# EAGLE library part UJ2-MIBH2-4-SMT_UJ2-MIBH2-4-SMT (library demon)
Micro B, USB 2.0, 1.8 A, Right Angle, Surface Mount (SMT), USB Receptacle Check availability <https://pricing.snapeda.com/parts/UJ2-MIBH2-4-SMT/CUI%20Devices/view-part?ref=eda>
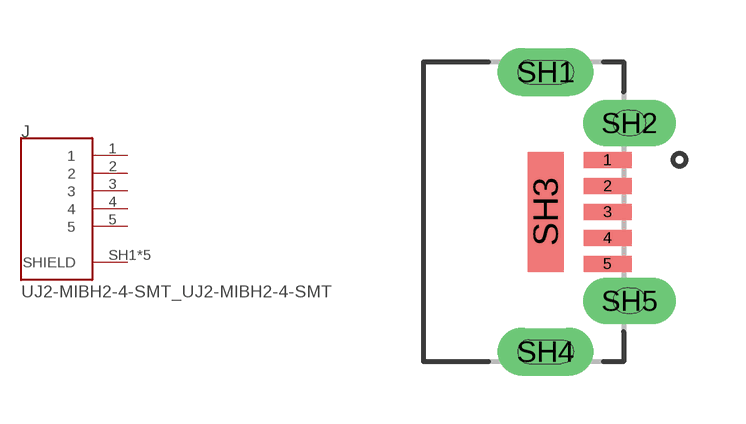
[diagram p5: symbol with the pads of UJ2-MIBH2-4-SMT_CUI_UJ2-MIBH2-4-SMT; footprint UJ2-MIBH2-4-SMT_CUI_UJ2-MIBH2-4-SMT]

Designator prefix J

## UJ2-MIBH2-4-SMT_UJ2-MIBH2-4-SMT (AVAILABILITY: In Stock; CUI_PURCHASE_URL: https://www.cuidevices.com/product/interconnect/connectors/usb-connectors/uj2-mibh2-4-smt?utm_source=snapeda.com&utm_medium=referral&utm_campaign=snapedaBOM; DESCRIPTION: Micro B, USB 2.0, 1.8 A, Right Angle, Surface Mount (SMT), USB Receptacle; MF: CUI Devices; MP: UJ2-MIBH2-4-SMT; PACKAGE: None; PRICE: None; PURCHASE-URL: https://pricing.snapeda.com/search/part/UJ2-MIBH2-4-SMT/?ref=eda)  [UJ2-MIBH2-4-SMT_CUI_UJ2-MIBH2-4-SMT]
1  1  pas
2  2  pas
3  3  pas
4  4  pas
5  5  pas
SH1  SHIELD  pas
SH2  SHIELD  pas
SH3  SHIELD  pas
SH4  SHIELD  pas
SH5  SHIELD  pas

## Footprint UJ2-MIBH2-4-SMT_CUI_UJ2-MIBH2-4-SMT (pad centres in mm)
smd 1.2 x 0.4: 1 0,0; 2 0,-0.65; 3 0,-1.3; 4 0,-1.95; 5 0,-2.6
drill 0.6 pad 1.2 long: SH1 -1.55,2.2; SH4 -1.55,-4.8
drill 0.65 pad 1.05 long: SH2 0.55,0.925; SH5 0.55,-3.525
smd 0.9 x 3: SH3 -1.55,-1.3